# Altium footprint library Avago Technologies Footprints.PcbLib: 71 footprints (part 1 of 5)
Each footprint in its own frame and in the unit in brackets; x right, y up, seen from the top. Pads: shape width x height; smd on the part's side, far side on the other; paste and mask are expansions set on the pad; w line width, h text height; cw(c..) or ccw(c..) is an arc to the next point about the centre after c.
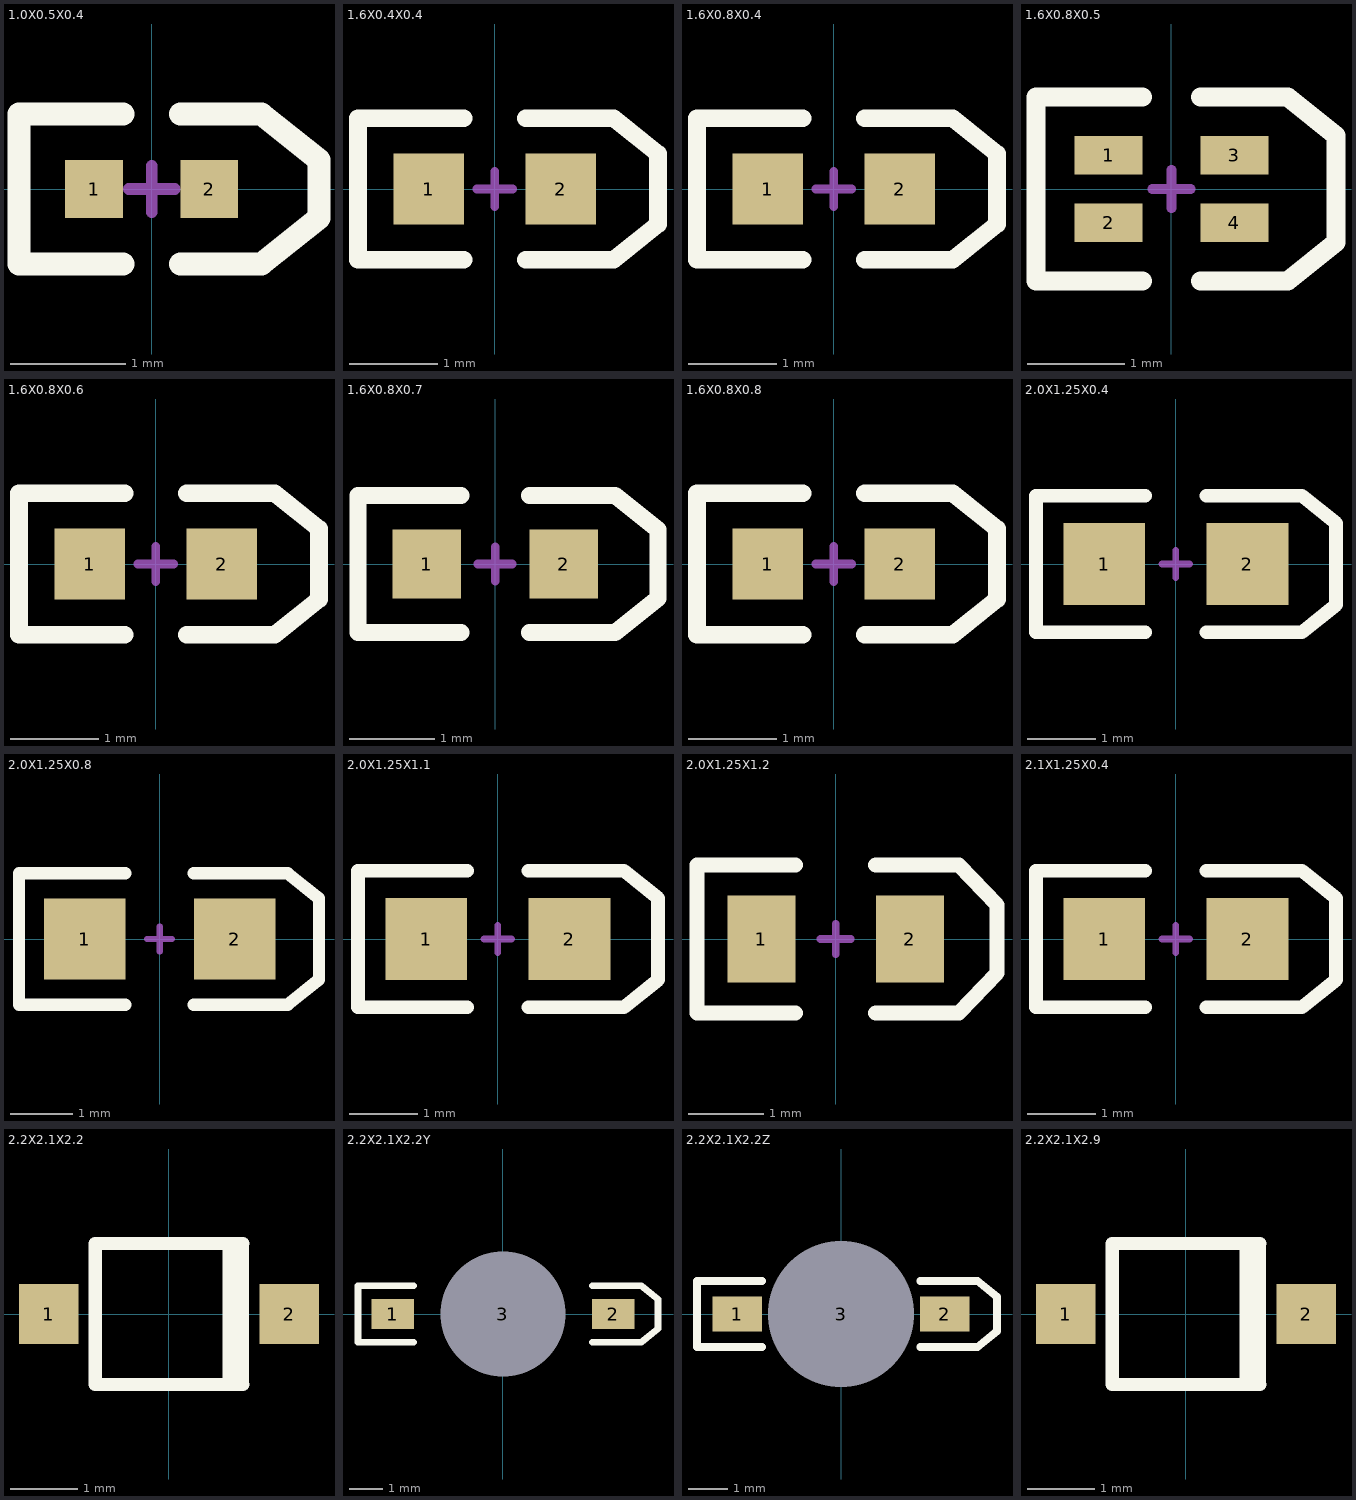
[diagram p0: the footprints below, top view; thin cyan lines are the x and y axes]

## 1.0X0.5X0.4 [mm] "SM LED; 2 Flat Leads"
height 0.5
pads (2):
  rect 0.5x0.5 smd: 1(-0.5,0) 2(0.5,0)
Top Overlay:
  lines w0.2: -0.25,-0.65 -1.15,-0.65 -1.15,0.65 -0.25,0.65 ; 0.25,-0.65 0.95,-0.65 1.45,-0.25 1.45,0.25 0.95,0.65 0.25,0.65
Mechanical 1:
  lines w0.1: -0.2,0 0.2,0 ; 0,-0.2 0,0.2

## 1.6X0.4X0.4 [mm] "SM LED; 2 Flat Leads"
height 0.5
pads (2):
  rect 0.8x0.8 smd: 1(-0.75,0) 2(0.75,0)
Top Overlay:
  lines w0.2: -0.35,-0.8 -1.55,-0.8 -1.55,0.8 -0.35,0.8 ; 0.35,-0.8 1.35,-0.8 1.85,-0.4 1.85,0.4 1.35,0.8 0.35,0.8
Mechanical 1:
  lines w0.1: -0.2,0 0.2,0 ; 0,-0.2 0,0.2

## 1.6X0.8X0.4 [mm] "SM LED; 2 Flat Leads"
height 0.5
pads (2):
  rect 0.8x0.8 smd: 1(-0.75,0) 2(0.75,0)
Top Overlay:
  lines w0.2: -0.35,-0.8 -1.55,-0.8 -1.55,0.8 -0.35,0.8 ; 0.35,-0.8 1.35,-0.8 1.85,-0.4 1.85,0.4 1.35,0.8 0.35,0.8
Mechanical 1:
  lines w0.1: -0.2,0 0.2,0 ; 0,-0.2 0,0.2

## 1.6X0.8X0.5 [mm] "SM LED, Bi-Colour; 4 Flat Leads; Body 1.6 x 0.8 x 0.5 mm (LxWxH)"
height 0.5
pads (4):
  rect 0.7x0.4 smd: 1(-0.65,0.35) 2(-0.65,-0.35) 3(0.65,0.35) 4(0.65,-0.35)
Top Overlay:
  lines w0.2: -0.3,-0.95 -1.4,-0.95 -1.4,0.95 -0.3,0.95 ; 0.3,-0.95 1.2,-0.95 1.7,-0.55 1.7,0.55 1.2,0.95 0.3,0.95
Mechanical 1:
  lines w0.1: -0.2,0 0.2,0 ; 0,-0.2 0,0.2

## 1.6X0.8X0.6 [mm] "SM LED; 2 Flat Leads"
height 0.7
pads (2):
  rect 0.8x0.8 smd: 1(-0.75,0) 2(0.75,0)
Top Overlay:
  lines w0.2: -0.35,-0.8 -1.55,-0.8 -1.55,0.8 -0.35,0.8 ; 0.35,-0.8 1.35,-0.8 1.85,-0.4 1.85,0.4 1.35,0.8 0.35,0.8
Mechanical 1:
  lines w0.1: -0.2,0 0.2,0 ; 0,-0.2 0,0.2

## 1.6X0.8X0.7 [mm] "SM LED; 2 Flat Leads"
height 0.8
pads (2):
  rect 0.8x0.8 smd: 1(-0.8,0) 2(0.8,0)
Top Overlay:
  lines w0.2: -0.4,-0.8 -1.6,-0.8 -1.6,0.8 -0.4,0.8 ; 0.4,-0.8 1.4,-0.8 1.9,-0.4 1.9,0.4 1.4,0.8 0.4,0.8
Mechanical 1:
  lines w0.1: -0.2,0 0.2,0 ; 0,-0.2 0,0.2

## 1.6X0.8X0.8 [mm] "SM LED; 2 Flat Leads"
height 0.9
pads (2):
  rect 0.8x0.8 smd: 1(-0.75,0) 2(0.75,0)
Top Overlay:
  lines w0.2: -0.35,-0.8 -1.55,-0.8 -1.55,0.8 -0.35,0.8 ; 0.35,-0.8 1.35,-0.8 1.85,-0.4 1.85,0.4 1.35,0.8 0.35,0.8
Mechanical 1:
  lines w0.1: -0.2,0 0.2,0 ; 0,-0.2 0,0.2

## 2.0X1.25X0.4 [mm] "SM LED; 2 Flat Leads"
height 0.5
pads (2):
  rect 1.2x1.2 smd: 1(-1.05,0) 2(1.05,0)
Top Overlay:
  lines w0.2: -0.45,-1 -2.05,-1 -2.05,1 -0.45,1 ; 0.45,-1 1.85,-1 2.35,-0.6 2.35,0.6 1.85,1 0.45,1
Mechanical 1:
  lines w0.1: -0.2,0 0.2,0 ; 0,-0.2 0,0.2

## 2.0X1.25X0.8 [mm] "SM LED; 2 Flat Leads"
height 0.9
pads (2):
  rect 1.3x1.3 smd: 1(-1.2,0) 2(1.2,0)
Top Overlay:
  lines w0.2: -0.55,-1.05 -2.25,-1.05 -2.25,1.05 -0.55,1.05 ; 0.55,-1.05 2.05,-1.05 2.55,-0.65 2.55,0.65 2.05,1.05 0.55,1.05
Mechanical 1:
  lines w0.1: -0.2,0 0.2,0 ; 0,-0.2 0,0.2

## 2.0X1.25X1.1 [mm] "SM LED; 2 Flat Leads"
height 1.2
pads (2):
  rect 1.2x1.2 smd: 1(-1.05,0) 2(1.05,0)
Top Overlay:
  lines w0.2: -0.45,-1 -2.05,-1 -2.05,1 -0.45,1 ; 0.45,-1 1.85,-1 2.35,-0.6 2.35,0.6 1.85,1 0.45,1
Mechanical 1:
  lines w0.1: -0.2,0 0.2,0 ; 0,-0.2 0,0.2

## 2.0X1.25X1.2 [mm] "SM LED; 2 Flat Leads"
height 1.3
pads (2):
  rect 0.9x1.15 smd: 1(-0.98,0) 2(0.98,0)
Top Overlay:
  lines w0.2: -0.53,-0.975 -1.83,-0.975 -1.83,0.975 -0.53,0.975 ; 0.53,-0.975 1.63,-0.975 2.13,-0.45 2.13,0.45 1.63,0.975 0.53,0.975
Mechanical 1:
  lines w0.1: -0.2,0 0.2,0 ; 0,-0.2 0,0.2

## 2.1X1.25X0.4 [mm] "SM LED; 2 Flat Leads"
height 0.5
pads (2):
  rect 1.2x1.2 smd: 1(-1.05,0) 2(1.05,0)
Top Overlay:
  lines w0.2: -0.45,-1 -2.05,-1 -2.05,1 -0.45,1 ; 0.45,-1 1.85,-1 2.35,-0.6 2.35,0.6 1.85,1 0.45,1
Mechanical 1:
  lines w0.1: -0.2,0 0.2,0 ; 0,-0.2 0,0.2

## 2.2X2.1X2.2 [mm] "SM LED; 2 Gull Wing Leads; Body 2.2 x 2.1 mm, (LxW)"
height 2.2
pads (2):
  rect 0.89x0.89 smd: 1(-1.79,0) 2(1.79,0)
Top Overlay:
  lines w0.2: 0.895,-1.05 0.895,1.05 ; 1.095,-1.05 1.095,1.05 ; 1.1,-1.05 -1.1,-1.05 -1.1,1.05 1.1,1.05

## 2.2X2.1X2.2Y [mm] "SM LED; 2 Yoke Leads"
pads (3):
  rect 1.27x0.89 smd: 1(-3.3,0) 2(3.3,0)
  round 3.45 hole 3.75: 3(0,0)
Top Overlay:
  lines w0.2: -2.665,-0.845 -4.335,-0.845 -4.335,0.845 -2.665,0.845 ; 2.665,-0.845 4.135,-0.845 4.635,-0.445 4.635,0.445 4.135,0.845 2.665,0.845

## 2.2X2.1X2.2Z [mm] "SM LED; 2 Z-Bend Leads"
pads (3):
  rect 1.27x0.89 smd: 1(-2.665,0) 2(2.665,0)
  round 3.45 hole 3.75: 3(0,0)
Top Overlay:
  lines w0.2: -2.03,-0.845 -3.7,-0.845 -3.7,0.845 -2.03,0.845 ; 2.03,-0.845 3.5,-0.845 4,-0.445 4,0.445 3.5,0.845 2.03,0.845

## 2.2X2.1X2.9 [mm] "SM LED; 2 Gull Wing Leads; Body 2.2 x 2.1 mm, (LxW)"
height 2.9
pads (2):
  rect 0.89x0.89 smd: 1(-1.79,0) 2(1.79,0)
Top Overlay:
  lines w0.2: 0.895,-1.05 0.895,1.05 ; 1.095,-1.05 1.095,1.05 ; 1.1,-1.05 -1.1,-1.05 -1.1,1.05 1.1,1.05